# EAGLE library part TPS6102X (library johnz)
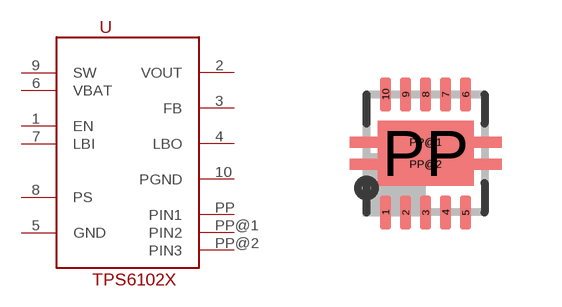
[diagram p1: symbol with the pads of S-PDSO-N10; footprint S-PDSO-N10]

Designator prefix -

## TPS6102X  [S-PDSO-N10]
1  EN
2  VOUT
3  FB
4  LBO
5  GND
6  VBAT
7  LBI
8  PS
9  SW
10  PGND
PP  PIN1
PP@1  PIN2
PP@2  PIN3

## Footprint S-PDSO-N10 (pad centres in mm)
QFN 10 3 x 3 mm Source: http://focus.ti.com/lit/ds/symlink/tps61200.pdf
smd 0.27 x 0.85: 1 -1,-1.475; 2 -0.5,-1.475; 3 0,-1.475; 4 0.5,-1.475; 5 1,-1.475; 6 1,1.475; 7 0.5,1.475; 8 0,1.475; 9 -0.5,1.475; 10 -1,1.475
smd 2.4 x 1.63: PP 0,0
smd 3.8 x 0.28: PP@1 0,0.275; PP@2 0,-0.275